# Altium footprint library RES.PcbLib: 37 footprints (part 2 of 3)
Each footprint in its own frame and in the unit in brackets; x right, y up, seen from the top. Pads: shape width x height; smd on the part's side, far side on the other; paste and mask are expansions set on the pad; w line width, h text height; cw(c..) or ccw(c..) is an arc to the next point about the centre after c.
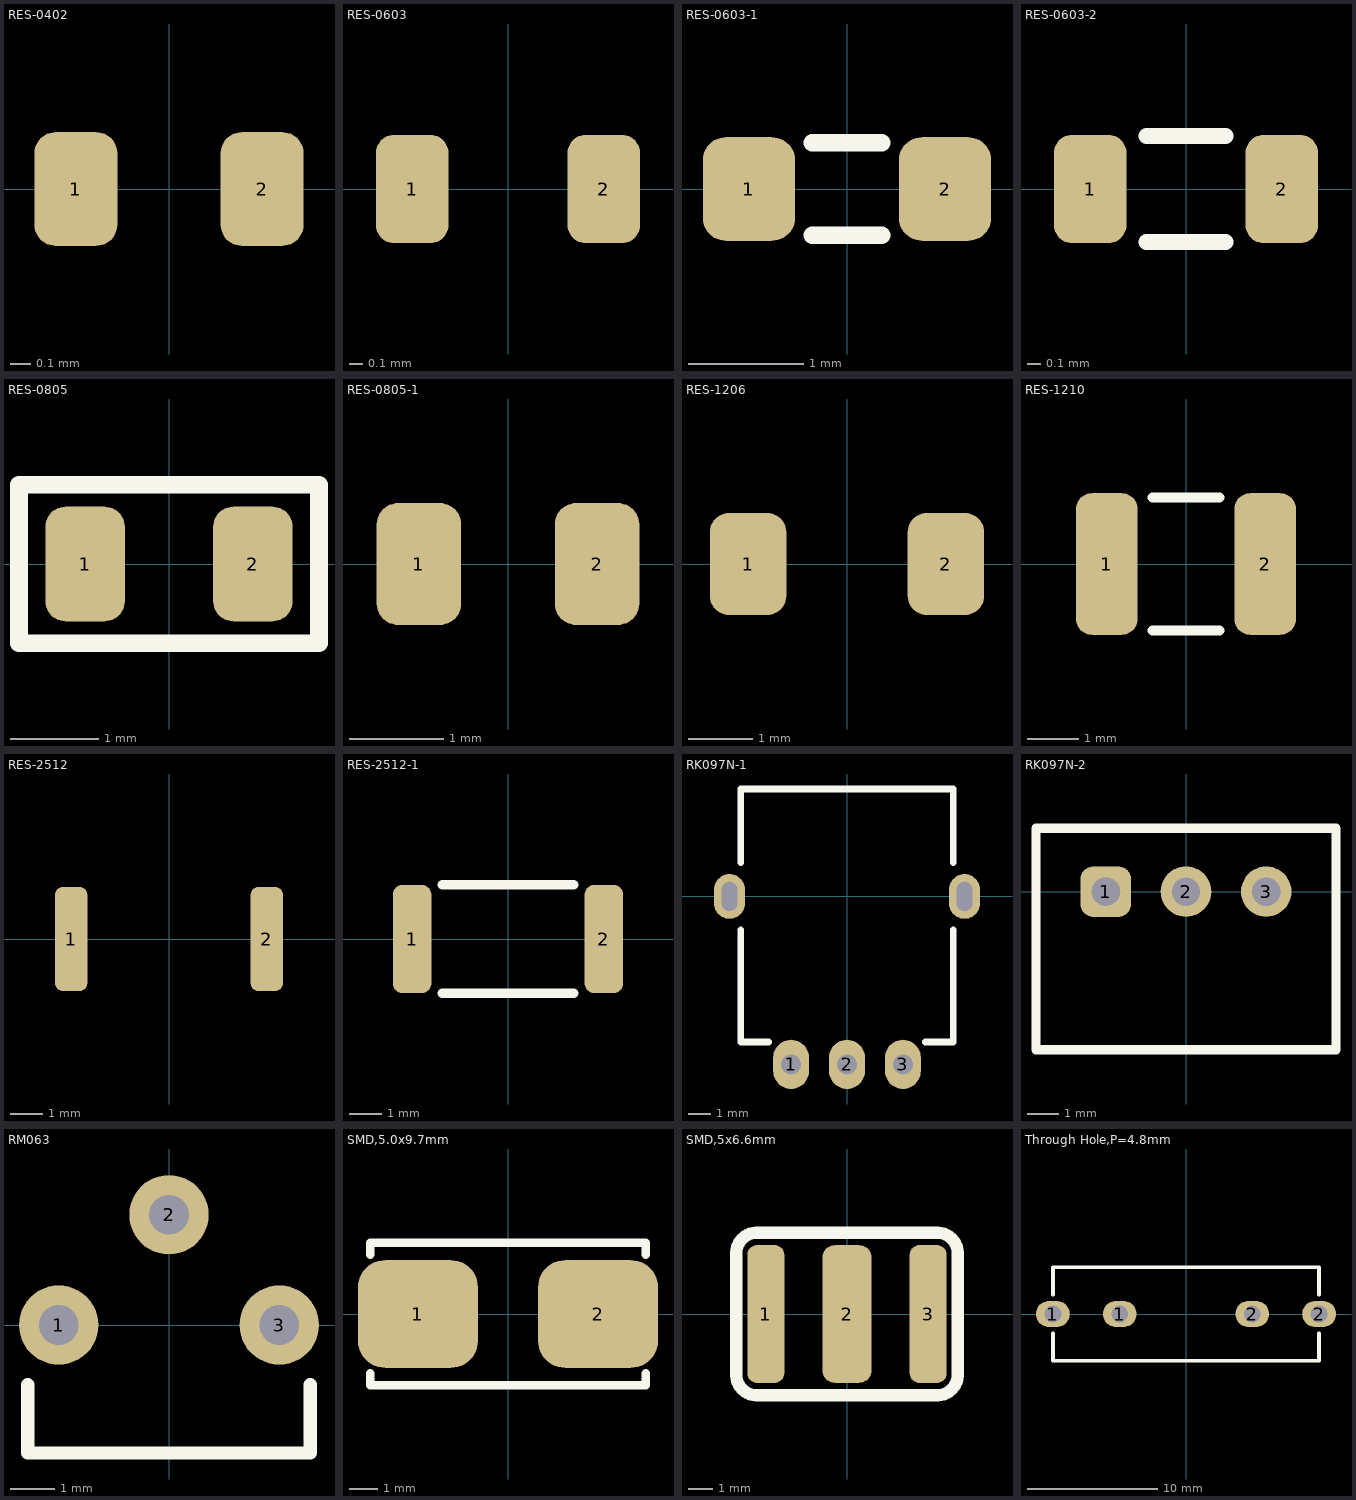
[diagram p1: the footprints below, top view; thin cyan lines are the x and y axes]

## RES-0402 [mm]
height 0.4
pads (2):
  rrect50% 0.4x0.55 smd: 1(-0.45,0) 2(0.45,0)
3D body "step_temp.STEP": height 0.4, standoff 0, extent -0.5,-0.25 0.5,0.25

## RES-0603 [mm]
pads (2):
  rrect50% 0.55x0.82 smd: 1(-0.725,0) 2(0.725,0)
3D body "ERJ-U03F6800V.STEP": height 0.45, standoff 0, extent -0.8,-0.4 0.8,0.4

## RES-0603-1 [mm]
pads (2):
  rrect50% 0.8x0.9 smd: 1(-0.85,0) 2(0.85,0)
Top Overlay:
  lines w0.15: -0.3,-0.4 0.3,-0.4 ; -0.3,0.4 0.3,0.4
3D body "ERJ-U03F6800V.STEP": height 0.45, standoff 0, extent -0.8,-0.4 0.8,0.4

## RES-0603-2 [mm]
pads (2):
  rrect50% 0.55x0.82 smd: 1(-0.725,0) 2(0.725,0)
Top Overlay:
  lines w0.12: -0.3,-0.4 0.3,-0.4 ; -0.3,0.4 0.3,0.4
3D body "ERJ-U03F6800V.STEP": height 0.45, standoff 0, extent -0.8,-0.4 0.8,0.4

## RES-0805 [mm]
pads (2):
  rrect50% 0.9x1.3 smd: 1(-0.95,0) 2(0.95,0)
Top Overlay:
  lines w0.2: -1.7,-0.9 -1.7,0.9 1.7,0.9 1.7,-0.9 -1.7,-0.9
3D body "resistencia_smd_0805.step": height 0.49, standoff 0, extent -1,-0.6 1,0.6

## RES-0805-1 [mm]
pads (2):
  rrect50% 0.9x1.3 smd: 1(-0.95,0) 2(0.95,0)
3D body "resistencia_smd_0805.step": height 0.49, standoff 0, extent -1,-0.6 1,0.6

## RES-1206 [mm]
pads (2):
  rrect50% 1.2x1.6 smd: 1(-1.55,0) 2(1.55,0)
3D body "R1206 AC1206.step": height 0.55, standoff 0, extent -1.55,-0.8 1.55,0.8

## RES-1210 [mm]
pads (2):
  rrect50% 1.2x2.77 smd: 1(-1.55,0) 2(1.55,0)
Top Overlay:
  lines w0.2: -0.65,-1.3 0.65,-1.3 ; -0.65,1.3 0.65,1.3
3D body "step_temp.STEP": height 0.65, standoff 0, extent -1.55,-1.3 1.55,1.3

## RES-2512 [mm]
pads (2):
  rrect50% 1x3.2 smd: 1(-3,0) 2(3,0)
3D body "step_temp.STEP": height 0.65, standoff 0, extent -3.175,-1.55 3.175,1.55

## RES-2512-1 [mil]
pads (2):
  rrect50% 47x132 smd: 1(-117,0) 2(117,0)
Top Overlay:
  lines w11.81: -80,-66 80,-66 ; -80,66 80,66
3D body "step_temp.STEP": height 25.59, standoff 0, extent -125,-61.02 125,61.02

## RK097N-1 [mm]
pads (5):
  oval 1.6x2.2 hole 0.9: 1(-2.5,-7.5) 2(0,-7.5) 3(2.5,-7.5)
  oval 1.4x2 hole 0.7 slot 1.3 at 90 deg: ""(-5.25,0) ""(5.25,0)
Top Overlay:
  lines w0.3: -4.75,-1.5 -4.75,-6.5 -3.5,-6.5 ; -4.75,1.5 -4.75,4.8 4.75,4.8 4.75,1.5 ; 3.5,-6.5 4.75,-6.5 4.75,-1.5
3D body "RD901F-40-15R1[1].step": height 25, standoff -3.5, extent -5.861,-7.65 5.861,4.85

## RK097N-2 [mm]
pads (3):
  rrect50% 1.6x1.6 hole 0.9: 1(-2.54,0)
  round 1.6 hole 0.9: 2(0,0) 3(2.54,0)
Top Overlay:
  lines w0.3: -4.75,-5 -4.75,2 4.75,2 4.75,-5 -4.75,-5
3D body "RK0971-L-15RE_N-5-green[1].step": height 12.8, standoff -3.5, extent -6,-20.05 6,2

## RM063 [mm]
pads (3):
  round 1.8 hole 0.9 mask+0.1: 1(-2.5,0) 2(0,2.5) 3(2.5,0)
Top Overlay:
  lines w0.3: -3.2,-1.355 -3.2,-2.9 3.2,-2.9 3.2,-1.355
3D body "User Library-RM-063.STEP": height 10.5, standoff -0.81, extent -3.25,-2.9 3.25,2.729

## SMD,5.0x9.7mm [mm]
pads (2):
  rrect50% 4.24x3.81 smd: 1(-3.185,0) 2(3.185,0)
Top Overlay:
  lines w0.3: -4.865,-2.1 -4.865,-2.515 4.865,-2.515 4.865,-2.1 ; -4.865,2.1 -4.865,2.515 4.865,2.515 4.865,2.1
3D body "SMD fuse holder v7.step": height 4.14, standoff 0, extent -4.75,-2.5 4.75,2.5

## SMD,5x6.6mm [mm]
pads (3):
  rrect50% 1.5x5.6 smd: 1(-3.3,0) 3(3.3,0)
  rrect50% 2x5.6 smd: 2(0,0)
Top Overlay:
  lines w0.5: -4.5,-2.5 ccw(c-3.7,-2.5) -3.7,-3.3 3.7,-3.3 ccw(c3.7,-2.5) 4.5,-2.5 4.5,2.5 ccw(c3.7,2.5) 3.7,3.3 -3.7,3.3 ccw(c-3.7,2.5) -4.5,2.5 -4.5,-2.5
3D body "GDT__BrightKing_3R-5-S_series.stp": height 5, standoff 0, extent -3.65,-2.5 3.55,2.5

## Through Hole,P=4.8mm [mm]
pads (4):
  oval 2.6x2 hole 1.3: 1(-10.25,0) 1(-5.1,0) 2(5.1,0) 2(10.25,0)
Top Overlay:
  lines w0.3: -10.25,-1.5 -10.25,-3.6 10.25,-3.6 10.25,-1.5 ; -10.25,1.5 -10.25,3.6 10.25,3.6 10.25,1.5
3D body "ALSRobot-Fuse[1].STEP": height 9.59, standoff -3.31, extent -10.639,-3 10.639,3.19